# Altium integrated library WE_WR-TBL_Pluggable System_2.50 mm_rev15c.IntLib: 24 symbols
Pins are listed as number, name and electrical type; pins without a type are passive.

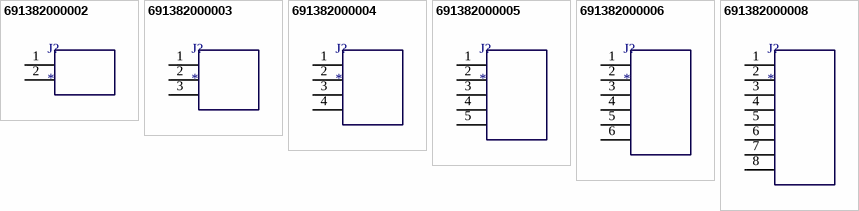
[diagram p0: symbols 691382000002 to 691382000008]

## 691382000002
designator J?
WR-TBL Terminal block - serie 382; Manufacturer: Würth Elektronik eiSos GmbH; partNo: 691382000002; ComponentLink1 Description: Manufacturer; ComponentLink2 Description: Datasheet; ComponentLink1URL: http://www.we-online.de; ComponentLink2URL: http://katalog.we-online.de/em/datasheet/6913820000xx.pdf; Created by: Karrer Zheng; Created Date: 10/9/2014
footprint 691382000002
pins: 1  , 2  

## 691382000003
designator J?
WR-TBL Terminal block - serie 382; Manufacturer: Würth Elektronik eiSos GmbH; partNo: 691382000003; ComponentLink1 Description: Manufacturer; ComponentLink2 Description: Datasheet; ComponentLink1URL: http://www.we-online.de; ComponentLink2URL: http://katalog.we-online.de/em/datasheet/6913820000xx.pdf; Created by: Karrer Zheng; Created Date: 10/9/2014
footprint 691382000003
pins: 1  , 2  , 3  

## 691382000004
designator J?
WR-TBL Terminal block - serie 382; Manufacturer: Würth Elektronik eiSos GmbH; partNo: 691382000004; ComponentLink1 Description: Manufacturer; ComponentLink2 Description: Datasheet; ComponentLink1URL: http://www.we-online.de; ComponentLink2URL: http://katalog.we-online.de/em/datasheet/6913820000xx.pdf; Created by: Karrer Zheng; Created Date: 10/9/2014
footprint 691382000004
pins: 1  , 2  , 3  , 4  

## 691382000005
designator J?
WR-TBL Terminal block - serie 382; Manufacturer: Würth Elektronik eiSos GmbH; partNo: 691382000005; ComponentLink1 Description: Manufacturer; ComponentLink2 Description: Datasheet; ComponentLink1URL: http://www.we-online.de; ComponentLink2URL: http://katalog.we-online.de/em/datasheet/6913820000xx.pdf; Created by: Karrer Zheng; Created Date: 10/9/2014
footprint 691382000005
pins: 1  , 2  , 3  , 4  , 5  

## 691382000006
designator J?
WR-TBL Terminal block - serie 382; Manufacturer: Würth Elektronik eiSos GmbH; partNo: 691382000006; ComponentLink1 Description: Manufacturer; ComponentLink2 Description: Datasheet; ComponentLink1URL: http://www.we-online.de; ComponentLink2URL: http://katalog.we-online.de/em/datasheet/6913820000xx.pdf; Created by: Karrer Zheng; Created Date: 10/9/2014
footprint 691382000006
pins: 1  , 2  , 3  , 4  , 5  , 6  

## 691382000008
designator J?
WR-TBL Terminal block - serie 382; Manufacturer: Würth Elektronik eiSos GmbH; partNo: 691382000008; ComponentLink1 Description: Manufacturer; ComponentLink2 Description: Datasheet; ComponentLink1URL: http://www.we-online.de; ComponentLink2URL: http://katalog.we-online.de/em/datasheet/6913820000xx.pdf; Created by: Karrer Zheng; Created Date: 10/9/2014
footprint 691382000008
pins: 1  , 2  , 3  , 4  , 5  , 6  , 7  , 8  


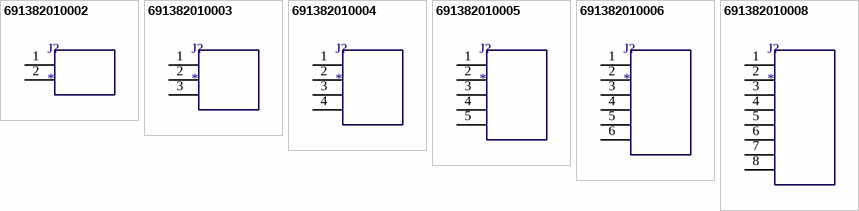
[diagram p1: symbols 691382010002 to 691382010008]

## 691382010002
designator J?
WR-TBL Terminal block - serie 382; Manufacturer: Würth Elektronik eiSos GmbH; partNo: 691382010002; ComponentLink1 Description: Manufacturer; ComponentLink2 Description: Datasheet; ComponentLink1URL: http://www.we-online.de; ComponentLink2URL: http://katalog.we-online.de/em/datasheet/6913820100xx.pdf; Created by: Karrer Zheng; Created Date: 10/9/2014
footprint 691382010002
pins: 1  , 2  

## 691382010003
designator J?
WR-TBL Terminal block - serie 382; Manufacturer: Würth Elektronik eiSos GmbH; partNo: 691382010003; ComponentLink1 Description: Manufacturer; ComponentLink2 Description: Datasheet; ComponentLink1URL: http://www.we-online.de; ComponentLink2URL: http://katalog.we-online.de/em/datasheet/6913820100xx.pdf; Created by: Karrer Zheng; Created Date: 10/9/2014
footprint 691382010003
pins: 1  , 2  , 3  

## 691382010004
designator J?
WR-TBL Terminal block - serie 382; Manufacturer: Würth Elektronik eiSos GmbH; partNo: 691382010004; ComponentLink1 Description: Manufacturer; ComponentLink2 Description: Datasheet; ComponentLink1URL: http://www.we-online.de; ComponentLink2URL: http://katalog.we-online.de/em/datasheet/6913820100xx.pdf; Created by: Karrer Zheng; Created Date: 10/9/2014
footprint 691382010004
pins: 1  , 2  , 3  , 4  

## 691382010005
designator J?
WR-TBL Terminal block - serie 382; Manufacturer: Würth Elektronik eiSos GmbH; partNo: 691382010005; ComponentLink1 Description: Manufacturer; ComponentLink2 Description: Datasheet; ComponentLink1URL: http://www.we-online.de; ComponentLink2URL: http://katalog.we-online.de/em/datasheet/6913820100xx.pdf; Created by: Karrer Zheng; Created Date: 10/9/2014
footprint 691382010005
pins: 1  , 2  , 3  , 4  , 5  

## 691382010006
designator J?
WR-TBL Terminal block - serie 382; Manufacturer: Würth Elektronik eiSos GmbH; partNo: 691382010006; ComponentLink1 Description: Manufacturer; ComponentLink2 Description: Datasheet; ComponentLink1URL: http://www.we-online.de; ComponentLink2URL: http://katalog.we-online.de/em/datasheet/6913820100xx.pdf; Created by: Karrer Zheng; Created Date: 10/9/2014
footprint 691382010006
pins: 1  , 2  , 3  , 4  , 5  , 6  

## 691382010008
designator J?
WR-TBL Terminal block - serie 382; Manufacturer: Würth Elektronik eiSos GmbH; partNo: 691382010008; ComponentLink1 Description: Manufacturer; ComponentLink2 Description: Datasheet; ComponentLink1URL: http://www.we-online.de; ComponentLink2URL: http://katalog.we-online.de/em/datasheet/6913820100xx.pdf; Created by: Karrer Zheng; Created Date: 10/9/2014
footprint 691382010008
pins: 1  , 2  , 3  , 4  , 5  , 6  , 7  , 8  


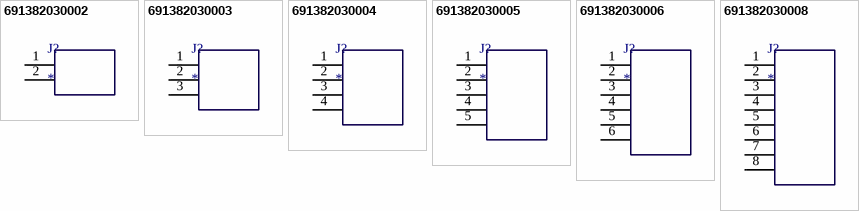
[diagram p2: symbols 691382030002 to 691382030008]

## 691382030002
designator J?
WR-TBL Terminal block - serie382; Manufacturer: Würth Elektronik eiSos GmbH; partNo: 691382030002; ComponentLink1 Description: Manufacturer; ComponentLink2 Description: Datasheet; ComponentLink1URL: http://www.we-online.de; ComponentLink2URL: http://katalog.we-online.de/em/datasheet/6913820300xx.pdf; Created by: Karrer Zheng; Created Date: 10/9/2014
footprint 691382030002
pins: 1  , 2  

## 691382030003
designator J?
WR-TBL Terminal block - serie382; Manufacturer: Würth Elektronik eiSos GmbH; partNo: 691382030003; ComponentLink1 Description: Manufacturer; ComponentLink2 Description: Datasheet; ComponentLink1URL: http://www.we-online.de; ComponentLink2URL: http://katalog.we-online.de/em/datasheet/6913820300xx.pdf; Created by: Karrer Zheng; Created Date: 10/9/2014
footprint 691382030003
pins: 1  , 2  , 3  

## 691382030004
designator J?
WR-TBL Terminal block - serie382; Manufacturer: Würth Elektronik eiSos GmbH; partNo: 691382030004; ComponentLink1 Description: Manufacturer; ComponentLink2 Description: Datasheet; ComponentLink1URL: http://www.we-online.de; ComponentLink2URL: http://katalog.we-online.de/em/datasheet/6913820300xx.pdf; Created by: Karrer Zheng; Created Date: 10/9/2014
footprint 691382030004
pins: 1  , 2  , 3  , 4  

## 691382030005
designator J?
WR-TBL Terminal block - serie382; Manufacturer: Würth Elektronik eiSos GmbH; partNo: 691382030005; ComponentLink1 Description: Manufacturer; ComponentLink2 Description: Datasheet; ComponentLink1URL: http://www.we-online.de; ComponentLink2URL: http://katalog.we-online.de/em/datasheet/6913820300xx.pdf; Created by: Karrer Zheng; Created Date: 10/9/2014
footprint 691382030005
pins: 1  , 2  , 3  , 4  , 5  

## 691382030006
designator J?
WR-TBL Terminal block - serie382; Manufacturer: Würth Elektronik eiSos GmbH; partNo: 691382030006; ComponentLink1 Description: Manufacturer; ComponentLink2 Description: Datasheet; ComponentLink1URL: http://www.we-online.de; ComponentLink2URL: http://katalog.we-online.de/em/datasheet/6913820300xx.pdf; Created by: Karrer Zheng; Created Date: 10/9/2014
footprint 691382030006
pins: 1  , 2  , 3  , 4  , 5  , 6  

## 691382030008
designator J?
WR-TBL Terminal block - serie382; Manufacturer: Würth Elektronik eiSos GmbH; partNo: 691382030008; ComponentLink1 Description: Manufacturer; ComponentLink2 Description: Datasheet; ComponentLink1URL: http://www.we-online.de; ComponentLink2URL: http://katalog.we-online.de/em/datasheet/6913820300xx.pdf; Created by: Karrer Zheng; Created Date: 10/9/2014
footprint 691382030008
pins: 1  , 2  , 3  , 4  , 5  , 6  , 7  , 8  


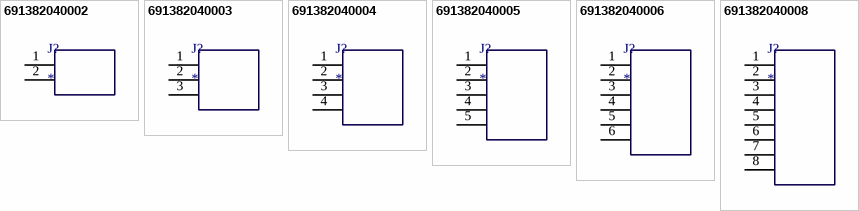
[diagram p3: symbols 691382040002 to 691382040008]

## 691382040002
designator J?
WR-TBL Terminal block - serie 382; Manufacturer: Würth Elektronik eiSos GmbH; partNo: 691382040002; ComponentLink1 Description: Manufacturer; ComponentLink2 Description: Datasheet; ComponentLink1URL: http://www.we-online.de; ComponentLink2URL: http://katalog.we-online.de/em/datasheet/6913820400xx.pdf; Created by: Karrer Zheng; Created Date: 10/9/2014
footprint 691382040002
pins: 1  , 2  

## 691382040003
designator J?
WR-TBL Terminal block - serie 382; Manufacturer: Würth Elektronik eiSos GmbH; partNo: 691382040003; ComponentLink1 Description: Manufacturer; ComponentLink2 Description: Datasheet; ComponentLink1URL: http://www.we-online.de; ComponentLink2URL: http://katalog.we-online.de/em/datasheet/6913820400xx.pdf; Created by: Karrer Zheng; Created Date: 10/9/2014
footprint 691382040003
pins: 1  , 2  , 3  

## 691382040004
designator J?
WR-TBL Terminal block - serie 382; Manufacturer: Würth Elektronik eiSos GmbH; partNo: 691382040004; ComponentLink1 Description: Manufacturer; ComponentLink2 Description: Datasheet; ComponentLink1URL: http://www.we-online.de; ComponentLink2URL: http://katalog.we-online.de/em/datasheet/6913820400xx.pdf; Created by: Karrer Zheng; Created Date: 10/9/2014
footprint 691382040004
pins: 1  , 2  , 3  , 4  

## 691382040005
designator J?
WR-TBL Terminal block - serie 382; Manufacturer: Würth Elektronik eiSos GmbH; partNo: 691382040005; ComponentLink1 Description: Manufacturer; ComponentLink2 Description: Datasheet; ComponentLink1URL: http://www.we-online.de; ComponentLink2URL: http://katalog.we-online.de/em/datasheet/6913820400xx.pdf; Created by: Karrer Zheng; Created Date: 10/9/2014
footprint 691382040005
pins: 1  , 2  , 3  , 4  , 5  

## 691382040006
designator J?
WR-TBL Terminal block - serie 382; Manufacturer: Würth Elektronik eiSos GmbH; partNo: 691382040006; ComponentLink1 Description: Manufacturer; ComponentLink2 Description: Datasheet; ComponentLink1URL: http://www.we-online.de; ComponentLink2URL: http://katalog.we-online.de/em/datasheet/6913820400xx.pdf; Created by: Karrer Zheng; Created Date: 10/9/2014
footprint 691382040006
pins: 1  , 2  , 3  , 4  , 5  , 6  

## 691382040008
designator J?
WR-TBL Terminal block - serie 382; Manufacturer: Würth Elektronik eiSos GmbH; partNo: 691382040008; ComponentLink1 Description: Manufacturer; ComponentLink2 Description: Datasheet; ComponentLink1URL: http://www.we-online.de; ComponentLink2URL: http://katalog.we-online.de/em/datasheet/6913820400xx.pdf; Created by: Karrer Zheng; Created Date: 10/9/2014
footprint 691382040008
pins: 1  , 2  , 3  , 4  , 5  , 6  , 7  , 8  